# EAGLE library part 5584ЛА3 (library std-logic-5584series)
АЕЯР.431200.209 ТУ 5584ЛА3У, 5584ЛА3АУ - Четыре логических элемента 2И-НЕ
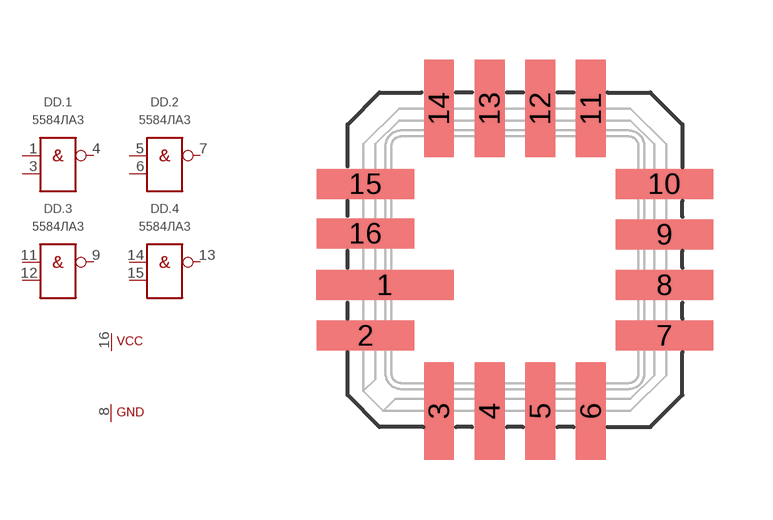
[diagram p14: symbol with the pads of 5119.16-А; footprint 5119.16-А]

Designator prefix DD; gates .1=5584ЛА3 .3=5584ЛА3 .2=5584ЛА3 .4=5584ЛА3 G$1=5584_PWR2

## 5584ЛА3У  [5119.16-А]
1  .1:A  in
3  .1:B  in
4  .1:Y  in
5  .2:A  in
6  .2:B  in
7  .2:Y  in
8  G$1:GND  pwr
9  .3:Y  in
11  .3:A  in
12  .3:B  in
13  .4:Y  in
14  .4:A  in
15  .4:B  in
16  G$1:VCC  pwr

## 5584ЛА3АУ  [5119.16-А]
Pads as for 5119.16-А

## Footprint 5119.16-А (pad centres in mm)
smd 3.45 x 0.75: 1 -3.26,-0.635
smd 2.45 x 0.75: 2 -3.75,-1.905; 7 3.75,-1.905; 8 3.75,-0.635; 9 3.75,0.635; 10 3.75,1.905; 15 -3.75,1.905; 16 -3.75,0.66
smd 0.75 x 2.45: 3 -1.905,-3.8; 4 -0.635,-3.8; 5 0.635,-3.8; 6 1.905,-3.8; 11 1.905,3.8; 12 0.635,3.8; 13 -0.635,3.8; 14 -1.905,3.8